# Altium footprint library con-lstb.PCBLIB: 1 footprints
Each footprint in its own frame and in the unit in brackets; x right, y up, seen from the top. Pads: shape width x height; smd on the part's side, far side on the other; paste and mask are expansions set on the pad; w line width, h text height; cw(c..) or ccw(c..) is an arc to the next point about the centre after c.
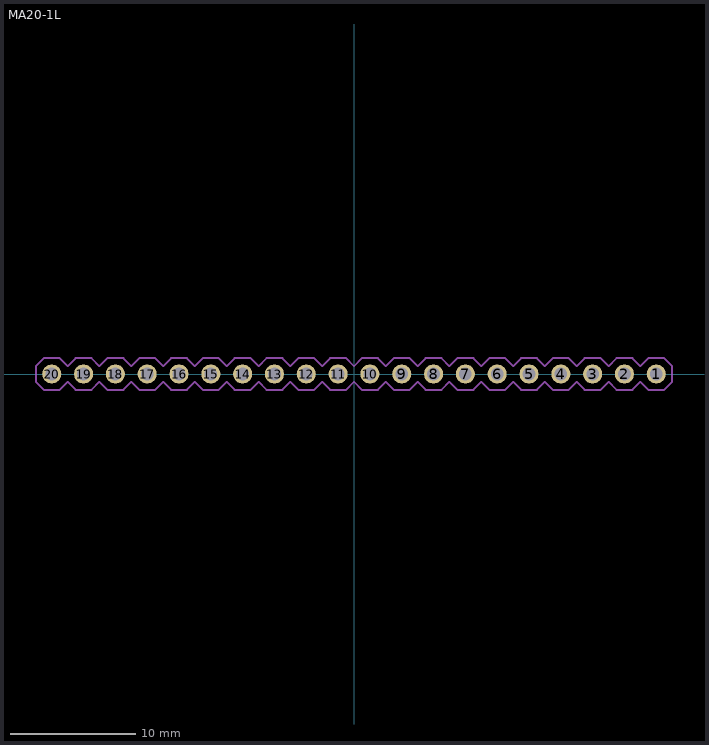
[diagram p0: the footprint, top view; thin cyan lines are the x and y axes]

## MA20-1L [mil]
pads (20):
  round 60 hole 40: 1(950,0) 2(850,0) 3(750,0) 4(650,0) 5(550,0) 6(450,0) 7(350,0) 8(250,0) 9(150,0) 10(50,0) 11(-50,0) 12(-150,0) 13(-250,0) 14(-350,0) 15(-450,0) 16(-550,0) 17(-650,0) 18(-750,0) 19(-850,0) 20(-950,0)
tDocu:
  region: 937,-13 937,13 963,13 963,-13
  region: -63,-13 -63,13 -37,13 -37,-13
  region: 837,-13 837,13 863,13 863,-13
  region: 737,-13 737,13 763,13 763,-13
  region: 637,-13 637,13 663,13 663,-13
  region: 537,-13 537,13 563,13 563,-13
  region: -163,-13 -163,13 -137,13 -137,-13
  region: -263,-13 -263,13 -237,13 -237,-13
  region: -363,-13 -363,13 -337,13 -337,-13
  region: -463,-13 -463,13 -437,13 -437,-13
  region: 437,-13 437,13 463,13 463,-13
  region: 337,-13 337,13 363,13 363,-13
  region: 237,-13 237,13 263,13 263,-13
  region: 137,-13 137,13 163,13 163,-13
  region: 37,-13 37,13 63,13 63,-13
  region: -563,-13 -563,13 -537,13 -537,-13
  region: -663,-13 -663,13 -637,13 -637,-13
  region: -763,-13 -763,13 -737,13 -737,-13
  region: -863,-13 -863,13 -837,13 -837,-13
  region: -963,-13 -963,13 -937,13 -937,-13
tPlace:
  lines w6: -1000,-25 -975,-50 -925,-50 -900,-25 -875,-50 -825,-50 -800,-25 -775,-50 -725,-50 -700,-25 -675,-50 -625,-50 -600,-25 -575,-50 -525,-50 -500,-25 -475,-50 -425,-50 -400,-25 -375,-50 -325,-50 -300,-25 -275,-50 -225,-50 -200,-25 -175,-50 -125,-50 -100,-25 -75,-50 -25,-50 0,-25 25,-50 75,-50 100,-25 125,-50 175,-50 200,-25 225,-50 275,-50 300,-25 325,-50 375,-50 400,-25 425,-50 475,-50 500,-25 525,-50 575,-50 600,-25 625,-50 675,-50 700,-25 725,-50 775,-50 800,-25 825,-50 875,-50 900,-25 925,-50 975,-50 1000,-25 1000,25 975,50 925,50 900,25 875,50 825,50 800,25 775,50 725,50 700,25 675,50 625,50 600,25 575,50 525,50 500,25 475,50 425,50 400,25 375,50 325,50 300,25 275,50 225,50 200,25 175,50 125,50 100,25 75,50 25,50 0,25 -25,50 -75,50 -100,25 -125,50 -175,50 -200,25 -225,50 -275,50 -300,25 -325,50 -375,50 -400,25 -425,50 -475,50 -500,25 -525,50 -575,50 -600,25 -625,50 -675,50 -700,25 -725,50 -775,50 -800,25 -825,50 -875,50 -900,25 -925,50 -975,50 -1000,25 -1000,-25
  text "1" at 935,-115 h77.5
  text "20" at -990,-115 h77.5
  text "10" at 15,-115 h77.5